# Altium footprint library PcbLib1.PcbLib: 14 footprints
Each footprint in its own frame and in the unit in brackets; x right, y up, seen from the top. Pads: shape width x height; smd on the part's side, far side on the other; paste and mask are expansions set on the pad; w line width, h text height; cw(c..) or ccw(c..) is an arc to the next point about the centre after c.
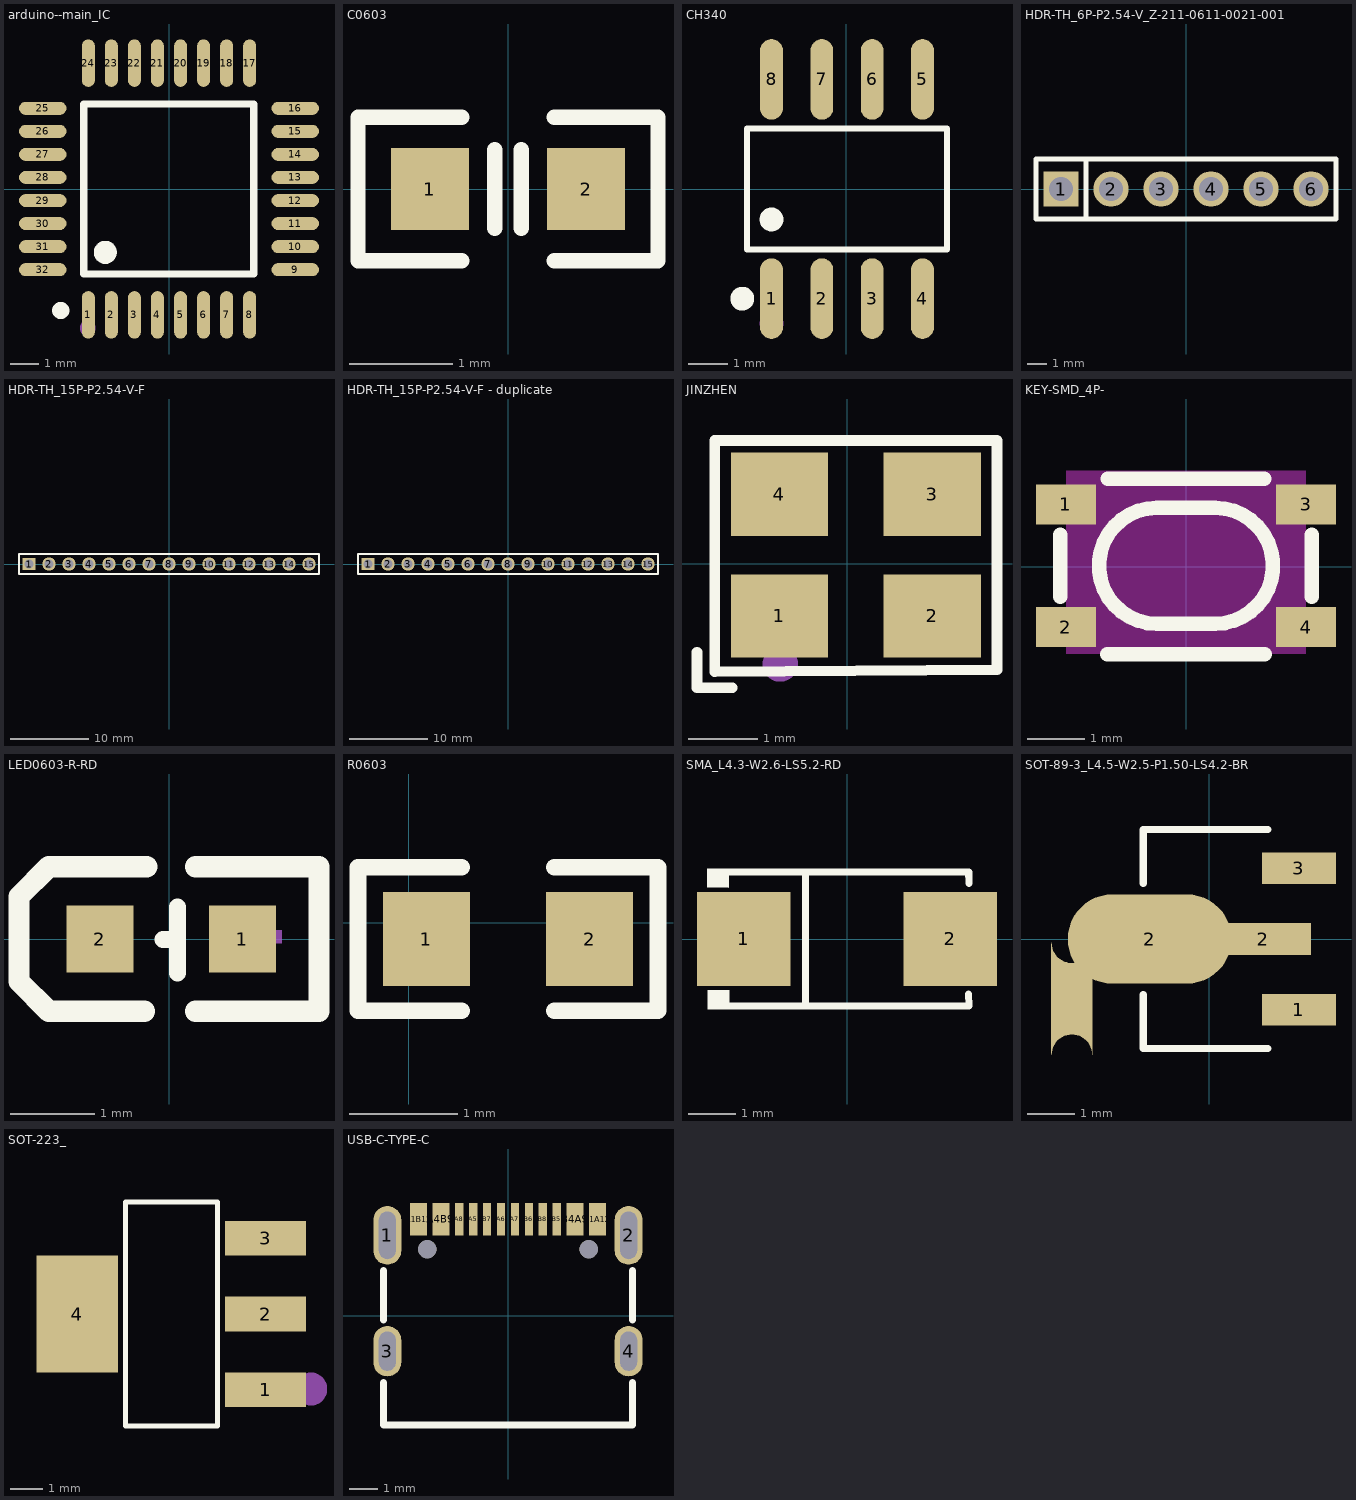
[diagram p0: the footprints below, top view; thin cyan lines are the x and y axes]

## arduino--main_IC [mm]
pads (32):
  oval 0.45x1.65 smd: 1(-2.8,-4.369) 2(-2,-4.369) 3(-1.2,-4.369) 4(-0.4,-4.369) 5(0.4,-4.369) 6(1.2,-4.369) 7(2,-4.369) 8(2.8,-4.369) 17(2.8,4.369) 18(2,4.369) 19(1.2,4.369) 20(0.4,4.369) 21(-0.4,4.369) 22(-1.2,4.369) 23(-2,4.369) 24(-2.8,4.369)
  oval 1.65x0.45 smd: 9(4.381,-2.8) 10(4.381,-2) 11(4.381,-1.2) 12(4.381,-0.4) 13(4.381,0.4) 14(4.381,1.2) 15(4.381,2) 16(4.381,2.8) 25(-4.381,2.8) 26(-4.381,2) 27(-4.381,1.2) 28(-4.381,0.4) 29(-4.381,-0.4) 30(-4.381,-1.2) 31(-4.381,-2) 32(-4.381,-2.8)
Top Overlay:
  lines w0.254: -2.963,-2.95 2.937,-2.95 2.937,2.95 -2.963,2.95 -2.963,-2.95
  lines w0.3: -3.759,-4.064 ccw(c-3.758,-4.214) -3.757,-4.064
  lines w0.4: -2.212,-1.999 ccw(c-2.211,-2.199) -2.21,-1.999
Mechanical 15:
  circle w0.254: c-2.819,-4.826 r0.127
  lines w0.254: -2.967,-4.826 ccw(c-2.819,-4.826) -2.671,-4.826 ccw(c-2.819,-4.826) -2.967,-4.826
3D body "32A_ATM.step": height 1.2, standoff 0, extent -4.623,-4.623 4.623,4.623

## C0603 [mm]
pads (2):
  rect 0.76x0.8 smd: 1(-0.76,0) 2(0.76,0)
Top Overlay:
  lines w0.15: -0.45,-0.7 -1.46,-0.7 -1.46,0.7 -0.45,0.7 ; -0.127,-0.381 -0.127,0.381 ; 0.127,-0.381 0.127,0.381 ; 0.45,-0.7 1.46,-0.7 1.46,0.7 0.45,0.7
3D body "CAPC17595_87N_KEM.step": height 0.87, standoff 0, extent -0.875,-0.475 0.875,0.475

## CH340 [mm]
pads (8):
  oval 0.574x2.036 smd: 1(-1.885,-2.768) 2(-0.615,-2.768) 3(0.655,-2.768) 4(1.925,-2.768) 5(1.925,2.768) 6(0.655,2.768) 7(-0.615,2.768) 8(-1.885,2.768)
Top Overlay:
  circle w0.3: c-2.624,-2.768 r0.15
  circle w0.3: c-1.885,-0.769 r0.15
  lines w0.152: -2.506,-1.521 2.546,-1.521 2.546,1.521 -2.506,1.521 -2.506,-1.521
Mechanical 15:
  circle w0.3: c-1.885,-3.398 r0.15
3D body "SOP8_ROM.step": height 1.5, standoff 0, extent -2.502,-2.972 2.502,3.226

## HDR-TH_6P-P2.54-V_Z-211-0611-0021-001 [mm]
pads (6):
  rect 1.8x1.8 hole 1.2: 1(-6.35,0)
  round 1.8 hole 1.2: 2(-3.81,0) 3(-1.27,0) 4(1.27,0) 5(3.81,0) 6(6.35,0)
Top Overlay:
  lines w0.254: -5.08,-1.524 -5.08,1.524 ; -7.62,-1.524 7.62,-1.524 7.62,1.524 -7.62,1.524 -7.62,-1.524

## HDR-TH_15P-P2.54-V-F [mm]
pads (15):
  rect 1.7x1.575 hole 1.1: 1(-17.78,0)
  round 1.7 hole 1.1: 2(-15.24,0) 3(-12.7,0) 4(-10.16,0) 5(-7.62,0) 6(-5.08,0) 7(-2.54,0) 8(0,0) 9(2.54,0) 10(5.08,0) 11(7.62,0) 12(10.16,0) 13(12.7,0) 14(15.24,0) 15(17.78,0)
Top Overlay:
  lines w0.203: -19.05,-1.27 19.05,-1.27 19.05,1.27 -17.145,1.27 -19.05,1.27 -19.05,-1.27

## HDR-TH_15P-P2.54-V-F - duplicate [mm]
pads (15):
  rect 1.7x1.575 hole 1.1: 1(-17.78,0)
  round 1.7 hole 1.1: 2(-15.24,0) 3(-12.7,0) 4(-10.16,0) 5(-7.62,0) 6(-5.08,0) 7(-2.54,0) 8(0,0) 9(2.54,0) 10(5.08,0) 11(7.62,0) 12(10.16,0) 13(12.7,0) 14(15.24,0) 15(17.78,0)
Top Overlay:
  lines w0.203: -19.05,-1.27 -19.05,1.27 -17.145,1.27 19.05,1.27 19.05,-1.27 -19.05,-1.27

## JINZHEN [mm]
pads (4):
  rect 1.4x1.2 smd: 1(-0.973,-0.748) 2(1.227,-0.748) 3(1.227,1.002) 4(-0.973,1.002)
Top Overlay:
  lines w0.152: -2.159,-1.27 -2.159,-1.778 -1.651,-1.778 ; -1.903,-1.552 -1.903,1.778 2.159,1.778 2.159,0.127 2.159,-1.524 -1.903,-1.552
Mechanical 15:
  circle w0.254: c-0.961,-1.44 r0.127
  region: -1.359,-0.301 -1.323,-0.301 -1.323,-0.877 -1.359,-0.877
  region: -1.395,-0.301 -1.359,-0.301 -1.359,-0.877 -1.395,-0.877
  region: -1.431,-0.301 -1.395,-0.301 -1.395,-0.877 -1.431,-0.877
  region: -1.467,-0.337 -1.431,-0.337 -1.431,-0.877 -1.467,-0.877
  region: -1.503,-0.337 -1.467,-0.337 -1.467,-0.445 -1.503,-0.445
  region: -1.539,-0.373 -1.503,-0.373 -1.503,-0.481 -1.539,-0.481
  region: -1.575,-0.409 -1.539,-0.409 -1.539,-0.481 -1.575,-0.481
  region: -1.611,-0.409 -1.575,-0.409 -1.575,-0.481 -1.611,-0.481

## KEY-SMD_4P- [mm]
pads (4):
  rect 1.05x0.7 smd: 1(-2.1,1.088) 2(-2.1,-1.062) 3(2.1,1.088) 4(2.1,-1.062)
Top Overlay:
  lines w0.254: -2.2,-0.531 -2.2,0.557 ; -1.381,-1.537 1.381,-1.537 ; -1.366,1.537 1.366,1.537 ; 2.2,-0.531 2.2,0.557 ; -0.508,-1.003 cw(c-0.508,0.013) -0.508,1.029 0.508,1.029 cw(c0.508,0.013) 0.508,-1.003 -0.508,-1.003
Keep-Out Layer:
  region: -2.1,-1.524 -2.1,1.676 2.1,1.676 2.1,-1.524

## LED0603-R-RD [mm]
pads (2):
  rect 0.8x0.8 smd: 1(0.876,0) 2(-0.826,0)
Top Overlay:
  lines w0.203: -0.074,-0.008 0.102,-0.008 ; 0.102,-0.406 0.102,0.381
  lines w0.254: -0.292,-0.864 -1.435,-0.864 -1.791,-0.508 -1.791,0.508 -1.435,0.864 -0.267,0.864 ; 0.318,-0.864 1.791,-0.864 1.791,0.864 0.318,0.864
Mechanical 15:
  region: -1.168,0.05 -0.508,0.05 -0.508,-0.103 -1.168,-0.103
  region: 0.961,-0.275 0.961,0.385 1.113,0.385 1.113,-0.275
  region: 0.686,0.102 1.346,0.102 1.346,-0.051 0.686,-0.051
3D body "LED0603.STEP": height 0.6, standoff 0, extent -0.81,-0.4 0.81,0.4

## R0603 [mm]
pads (2):
  rect 0.806x0.864 smd: 1(0.162,-0.149) 2(1.668,-0.149)
Top Overlay:
  lines w0.152: 0.489,-0.81 -0.47,-0.81 -0.47,0.512 0.489,0.512 ; 1.341,-0.81 2.3,-0.81 2.3,0.512 1.341,0.512
Top Paste:
  region: 0.56,0.251 0.56,0.023 0.18,0.023 0.18,-0.307 0.56,-0.307 0.56,-0.549 0.51,-0.599 -0.28,-0.599 -0.33,-0.549 -0.33,0.251 -0.28,0.301 0.51,0.301
  region: 2.11,0.301 1.31,0.301 1.26,0.251 1.26,0.023 1.63,0.023 1.63,-0.307 1.26,-0.307 1.26,-0.549 1.31,-0.599 2.11,-0.599 2.16,-0.549 2.16,0.251
3D body "STA_CSR0603_STP.step": height 0.56, standoff 0, extent 0.165,-0.571 1.867,0.317

## SMA_L4.3-W2.6-LS5.2-RD [mm]
pads (2):
  rect 2x2 smd: 1(-2.2,0) 2(2.2,0)
Top Overlay:
  region: -2.52,1.502 -2.521,1.096 -2.981,1.1 -2.977,1.502
  region: -2.512,-1.096 -2.513,-1.502 -2.973,-1.498 -2.969,-1.096
  lines w0.152: -2.596,-1.426 2.596,-1.426 ; -2.596,1.426 2.596,1.426 2.603,1.187 ; -0.884,-1.426 -0.884,1.426 ; 2.593,-1.176 2.6,-1.415
Mechanical 15:
  region: -2.317,-0.101 -2.317,0.101 -1.507,0.101 -1.507,-0.101
  region: 2.29,-0.09 2.29,0.113 1.48,0.113 1.48,-0.09
  region: 2.014,-0.675 2.014,0.675 1.811,0.675 1.811,-0.675

## SOT-89-3_L4.5-W2.5-P1.50-LS4.2-BR [mil]
pads (5):
  rect 62.01x26.46 smd: 1(74.84,-59.04) 3(74.84,59.07)
  oval 0x60 smd: 2(-115,-50)
  oval 136.9x74.8 smd: 2(-50,0)
  rect 80x26.46 smd: 2(45,0)
Top Overlay:
  lines w6: -55.33,-46.34 -55.33,-91.57 49.1,-91.57 ; -55.33,46.36 -55.33,91.59 49.1,91.59
Mechanical 15:
  circle w11.81: c88.96,-59.05 r5.91

## SOT-223_ [mm]
pads (4):
  rect 2.465x1.05 smd: 1(459.672,-345.093) 2(459.672,-342.793) 3(459.672,-340.493)
  rect 2.465x3.54 smd: 4(453.957,-342.793)
Top Overlay:
  lines w0.152: 455.418,-346.194 455.418,-339.391 458.211,-339.391 458.211,-346.194 455.418,-346.194
Mechanical 15:
  circle w0.5: c461.043,-345.069 r0.25
3D body "SOT-223_STM.step": height 1.81, standoff 0, extent 453.047,-346.253 460.337,-339.547

## USB-C-TYPE-C [mm]
pads (18):
  oval 1x2.1 hole 0.6 slot 1.7 at 90 deg: 1(-4.32,2.882) 2(4.32,2.882)
  oval 1x1.8 hole 0.6 slot 1.4 at 90 deg: 3(-4.32,-1.268) 4(4.32,-1.268)
  rect 0.6x1.15 smd: A1B12(-3.2,3.457) A4B9(-2.4,3.457) B1A12(3.2,3.457) B4A9(2.4,3.457)
  rect 0.3x1.15 smd: A5(-1.25,3.457) A6(-0.25,3.457) A7(0.25,3.457) A8(-1.75,3.457) B5(1.75,3.457) B6(0.75,3.457) B7(-0.75,3.457) B8(1.25,3.457)
  round 0.65 hole 0.65 unplated: ""(-2.89,2.383) ""(2.89,2.383)
Top Overlay:
  lines w0.254: -4.45,-2.387 -4.45,-3.905 4.45,-3.905 4.45,-2.387 ; -4.45,-0.148 -4.45,1.613 ; 4.45,-0.148 4.45,1.613
Top Paste:
  region: -4.82,3.432 -4.82,3.532 -4.744,3.715 -4.603,3.856 -4.42,3.932 -4.221,3.932 -4.037,3.856 -3.896,3.715 -3.82,3.532 -3.82,3.432 -3.82,2.332 -3.82,2.233 -3.896,2.049 -4.037,1.908 -4.221,1.832 -4.42,1.832 -4.603,1.908 -4.744,2.049 -4.82,2.233 -4.82,2.332
  region: 3.82,3.432 3.82,3.532 3.896,3.715 4.037,3.856 4.221,3.932 4.419,3.932 4.603,3.856 4.744,3.715 4.82,3.532 4.82,3.432 4.82,2.332 4.82,2.233 4.744,2.049 4.603,1.908 4.419,1.832 4.221,1.832 4.037,1.908 3.896,2.049 3.82,2.233 3.82,2.332
  region: -4.82,-0.868 -4.82,-0.768 -4.744,-0.584 -4.603,-0.444 -4.42,-0.368 -4.221,-0.368 -4.037,-0.444 -3.896,-0.584 -3.82,-0.768 -3.82,-0.868 -3.82,-1.668 -3.82,-1.767 -3.896,-1.951 -4.037,-2.092 -4.221,-2.168 -4.42,-2.168 -4.603,-2.092 -4.744,-1.951 -4.82,-1.767 -4.82,-1.668
  region: 3.82,-0.868 3.82,-0.768 3.896,-0.584 4.037,-0.444 4.221,-0.368 4.419,-0.368 4.603,-0.444 4.744,-0.584 4.82,-0.768 4.82,-0.868 4.82,-1.668 4.82,-1.767 4.744,-1.951 4.603,-2.092 4.419,-2.168 4.221,-2.168 4.037,-2.092 3.896,-1.951 3.82,-1.767 3.82,-1.668
  region: -1.9,4.032 -1.6,4.032 -1.6,2.882 -1.9,2.882
  region: -1.4,4.032 -1.1,4.032 -1.1,2.882 -1.4,2.882
  region: -0.9,4.032 -0.6,4.032 -0.6,2.882 -0.9,2.882
  region: -0.4,4.032 -0.1,4.032 -0.1,2.882 -0.4,2.882
  region: 0.1,4.032 0.4,4.032 0.4,2.882 0.1,2.882
  region: 0.6,4.032 0.9,4.032 0.9,2.882 0.6,2.882
  region: 1.1,4.032 1.4,4.032 1.4,2.882 1.1,2.882
  region: 1.6,4.032 1.9,4.032 1.9,2.882 1.6,2.882
  region: 2.1,4.032 2.7,4.032 2.7,2.882 2.1,2.882
  region: 2.9,4.032 3.5,4.032 3.5,2.882 2.9,2.882
  region: -2.7,4.032 -2.1,4.032 -2.1,2.882 -2.7,2.882
  region: -3.5,4.032 -2.9,4.032 -2.9,2.882 -3.5,2.882
Mechanical 15:
  circle w0.25: c2.89,2.383 r0.125
  circle w0.25: c-2.89,2.383 r0.125
3D body "1.step": height 3.26, standoff -1, extent -4.507,-3.827 4.443,3.923